# Altium schematic symbol library Schlib.SchLib: 7 symbols
Pins are listed as number, name and electrical type; pins without a type are passive.

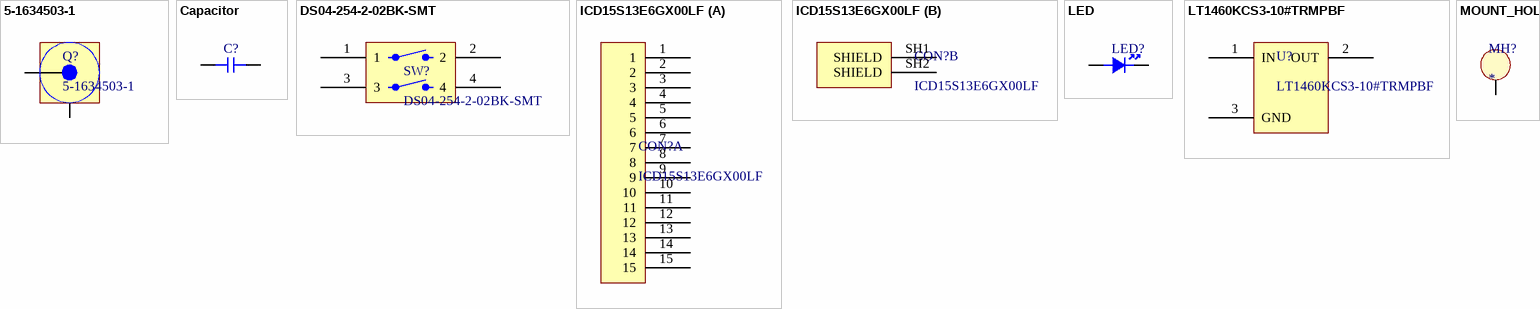
[diagram p0: symbols 5-1634503-1 to MOUNT_HOLE]

## 5-1634503-1
designator Q?
CONN BNC JACK STR 50 OHM PCB; Supplier 1: Digi-Key; Supplier Part Number 1: A97581-ND
footprint 5-1634503-1 (CONN BNC JACK STR 50 OHM PCB)
pins: 1, 2

## Capacitor
designator C?  (value not drawn)
Capacitor
simulation model CAP (Capacitor)
footprint 0603-CAP
pins: 1, 2

## DS04-254-2-02BK-SMT
designator SW?
DIP SWITCH, SPST, 2.54 PITCH, FL; Supplier Part Number 1: 2223-DS04-254-2-02BK-SMT-ND; Supplier 1: Digi-Key
footprint DS04-254-2-02BK-SMT (DIP SWITCH, SPST, 2.54 PITCH, FL)
pins: 1, 2, 3, 4

## ICD15S13E6GX00LF
designator CON?
CONN DSUB HD RCPT 15POS R/A SLDR; Supplier Part Number 1: 609-2801-ND; Supplier 1: Digi-Key
footprint ICD15S13E6GX00LF (CONN DSUB HD RCPT 15POS R/A SLDR)
part A pins: 1, 2, 3, 4, 5, 6, 7, 8, 9, 10, 11, 12, 13, 14, 15
part B pins: SH1 SHIELD, SH2 SHIELD

## LED
designator LED?  (value not drawn)
footprint 0603-LED
pins: A, C

## LT1460KCS3-10#TRMPBF
designator U?
IC VREF SERIES 0.5% SOT23-3; Supplier 1: Digi-Key; Supplier Part Number 1: LT1460KCS3-10#TRMPBFCT-ND
footprint SOT95P237X112-3N (SOT23, 3-Leads, Body 2.92x2.37mm, Pitch 0.95mm, IPC Medium Density)
pins: 1 IN, 2 OUT, 3 GND

## MOUNT_HOLE
designator MH?
MOUNTING HOLE
footprint MOUNTING_HOLE
pins: 1